# EAGLE library part QTE-020 (library con-samtec)
0,8mm HI-SPEED HEADER QTE Series Source: http://www.samtec.com/ftppub/pdf/QTE.PDF http://www.samtec.com/ftppub/cpdf/QTE-XXX-XX-X-D-XXX-FOOTPRINT.pdf
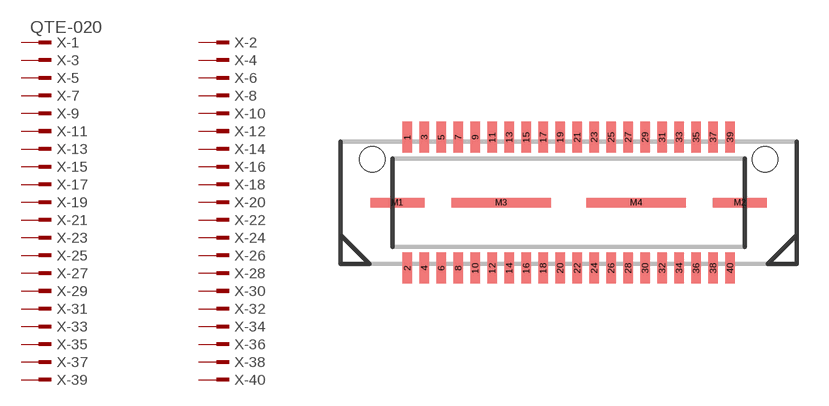
[diagram p0: symbol with the pads of QTE-020; footprint QTE-020]

Designator prefix X; gates -1=MPINV -2=MPIN -3=MPIN -4=MPIN -5=MPIN -6=MPIN -7=MPIN -8=MPIN -9=MPIN -10=MPIN -11=MPIN -12=MPIN -13=MPIN -14=MPIN -15=MPIN -16=MPIN -17=MPIN -18=MPIN -19=MPIN -20=MPIN -21=MPIN -22=MPIN -23=MPIN -24=MPIN -25=MPIN -26=MPIN -27=MPIN -28=MPIN -29=MPIN -30=MPIN -31=MPIN -32=MPIN -33=MPIN -34=MPIN -35=MPIN -36=MPIN -37=MPIN -38=MPIN -39=MPIN -40=MPIN

## QTE-020  [QTE-020]
1  -1:1  pas
2  -2:1  pas
3  -3:1  pas
4  -4:1  pas
5  -5:1  pas
6  -6:1  pas
7  -7:1  pas
8  -8:1  pas
9  -9:1  pas
10  -10:1  pas
11  -11:1  pas
12  -12:1  pas
13  -13:1  pas
14  -14:1  pas
15  -15:1  pas
16  -16:1  pas
17  -17:1  pas
18  -18:1  pas
19  -19:1  pas
20  -20:1  pas
21  -21:1  pas
22  -22:1  pas
23  -23:1  pas
24  -24:1  pas
25  -25:1  pas
26  -26:1  pas
27  -27:1  pas
28  -28:1  pas
29  -29:1  pas
30  -30:1  pas
31  -31:1  pas
32  -32:1  pas
33  -33:1  pas
34  -34:1  pas
35  -35:1  pas
36  -36:1  pas
37  -37:1  pas
38  -38:1  pas
39  -39:1  pas
40  -40:1  pas

## Footprint QTE-020 (pad centres in mm)
0,8mm HI-SPEED HEADER QTE Series Source: http://www.samtec.com/ftppub/pdf/QTE.PDF http://www.samtec.com/ftppub/cpdf/QTE-XXX-XX-X-D-XXX-FOOTPRINT.pdf
smd 0.46 x 1.45: 1 -7.595,3.09; 2 -7.595,-3.08; 3 -6.795,3.09; 4 -6.795,-3.08; 5 -5.995,3.09; 6 -5.995,-3.08; 7 -5.195,3.09; 8 -5.195,-3.08; 9 -4.395,3.09; 10 -4.395,-3.08; 11 -3.595,3.09; 12 -3.595,-3.08; 13 -2.795,3.09; 14 -2.795,-3.08; 15 -1.995,3.09; 16 -1.995,-3.08; 17 -1.195,3.09; 18 -1.195,-3.08; 19 -0.395,3.09; 20 -0.395,-3.08; 21 0.405,3.09; 22 0.405,-3.08; 23 1.205,3.09; 24 1.205,-3.08; 25 2.005,3.09; 26 2.005,-3.08; 27 2.805,3.09; 28 2.805,-3.08; 29 3.605,3.09; 30 3.605,-3.08; 31 4.405,3.09; 32 4.405,-3.08; 33 5.205,3.09; 34 5.205,-3.08; 35 6.005,3.09; 36 6.005,-3.08; 37 6.805,3.09; 38 6.805,-3.08; 39 7.605,3.09; 40 7.605,-3.08
smd 2.54 x 0.43: M1 -8.065,0; M2 8.065,0
smd 4.7 x 0.43: M3 -3.175,0; M4 3.175,0
hole 1.19 at -9.24,2.04
hole 1.19 at 9.24,2.04